# Altium schematic symbol library FH12A-40S-0.5SH_55_.SchLib: 1 symbol
Pins are listed as number, name and electrical type; pins without a type are passive.

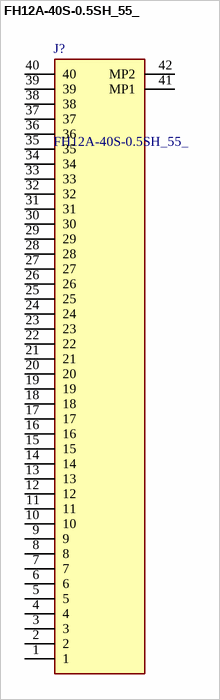
[diagram p0: symbol FH12A-40S-0.5SH_55_]

## FH12A-40S-0.5SH_55_
designator J?
40 Position FFC, FPC Connector Contacts, Top 0.020" (0.50mm) Surface Mount, Right Angle; Manufacturer_Name: Hirose; Manufacturer_Part_Number: FH12A-40S-0.5SH(55); Geometry.Height: 2.2mm; Farnell Part Number: *; Farnell Price/Stock: *; Datasheet Link: https://www.hirose.com/en/product/document?clcode=CL0586-0557-8-55&productname=FH12A-40S-0.5SH(55)&series=FH12&documenttype=2DDrawing&lang=en&documentid=0000906862
footprint FH12A40S05SH55
pins: 1, 2, 3, 4, 5, 6, 7, 8, 9, 10, 11, 12, 13, 14, 15, 16, 17, 18, 19, 20, 21, 22, 23, 24, 25, 26, 27, 28, 29, 30, 31, 32, 33, 34, 35, 36, 37, 38, 39, 40, 41 MP1, 42 MP2